# Altium schematic symbol library NCP164_voltage_5to3V3.SchLib: 1 symbol
Pins are listed as number, name and electrical type; pins without a type are passive.

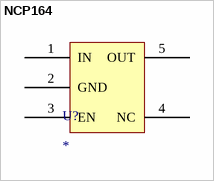
[diagram p0: symbol NCP164]

## NCP164
designator U?
footprint NCP164CSN330T1G_Voltage_regulator
pins: 1 IN, 2 GND, 3 EN, 4 NC, 5 OUT